# Altium schematic symbol library KlokWave.SchLib: 25 symbols
Pins are listed as number, name and electrical type; pins without a type are passive.

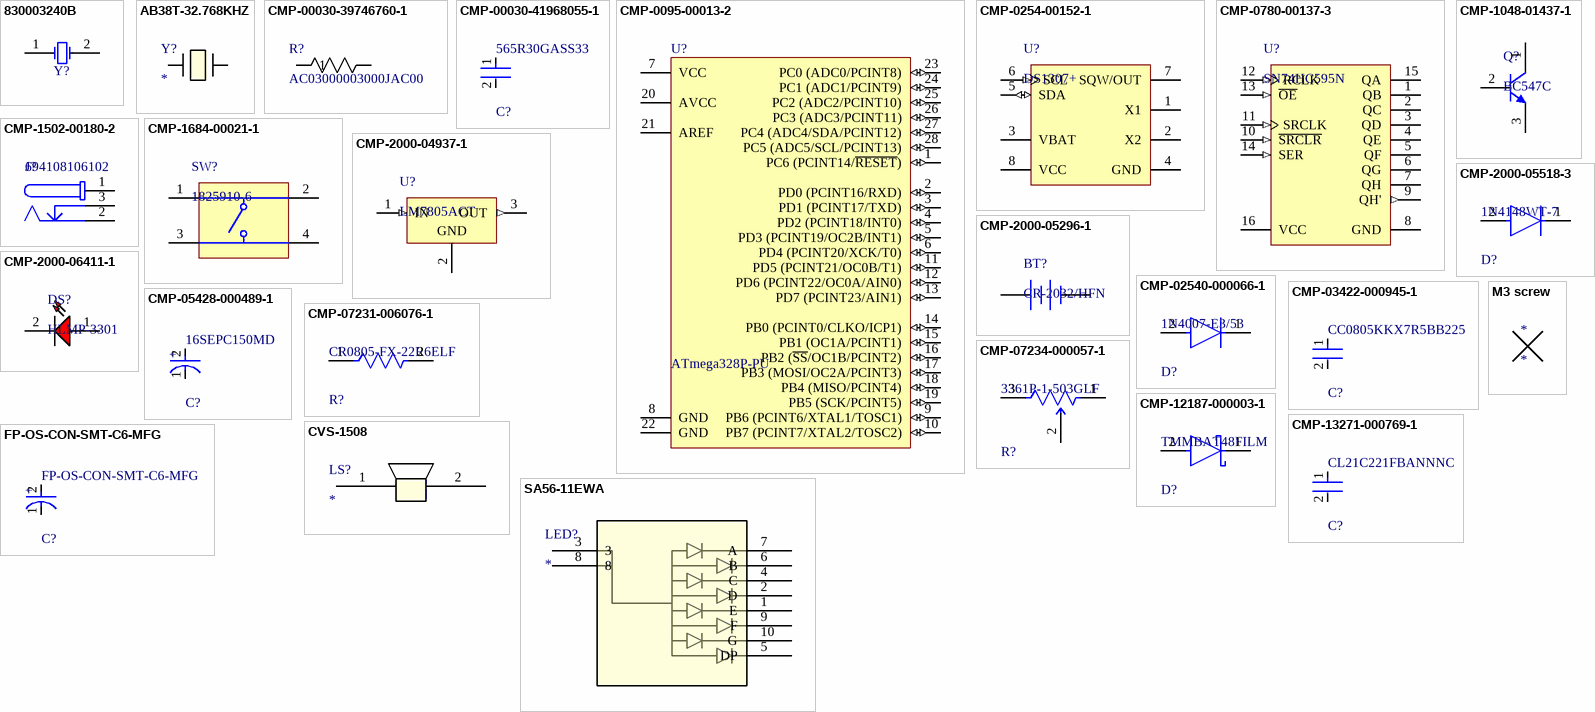
[diagram p0: symbols 830003240B to SA56-11EWA]

## 830003240B
designator Y?, comment 16MHz  (value not drawn)
THT Quartz Crystal, HC49/4H, 16MHz, +/-30ppm WE-XTAL; Manufacturer Part Number: 830003240B; Manufacturer: Wurth Elektronik; Frequency Stability: +/-50ppm; Load Capacitance: 30pF; ComponentLink1Description: Website Link; ComponentLink1URL: https://www.we-online.com/redexpert/article/830003240B?ad; ComponentLink2Description: Datasheet Link; ComponentLink2URL: https://www.we-online.com/redexpert/spec/830003240B?ad; Category: Crystals; Match Code: WE-XTAL; Mount: Through Hole; Operating Temperature Max: 70°C; Operating Temperature Min: -20°C; Packaging: Bulk; Case/Size Code: HC49/4H; Length: 11.05mm; Width: 4.7mm; Height: 4.1mm; Frequency: 16MHz; Frequency Tolerance: +/-30ppm
footprint THT 16 MHz: WE-XTAL_HC49/4H (Quartz Crystal, size HC49/4H, body 11.05x4.7mm)
pins: 1 OSC1, 2 OSC2

## AB38T-32.768KHZ
designator Y?
THT CRYSTAL 32.7680KHZ 12.5PF TH; Mfr_Name: Abracon
footprint THT 32 KHz OSC: XTAL_AB38T_ABR
pins: 1, 2

## CMP-00030-39746760-1
designator R?, comment AC03000003000JAC00
AC03000003000JAC00 Res Wirewound THT; NexarPartId: 39746760; Voltage Rating (DC): 30V; Lead Diameter: 800µm; Max Power Dissipation: 3W; Tolerance: 5%; Temperature Coefficient: -80ppm/°C; Resistance: 300Ω; Max Operating Temperature: 275°C; Number of Pins: 2; Termination: Axial; Diameter: 4.8mm; Contact Plating: Tin; Packaging: Cut Tape (CT); Schedule B: 8533210080, 8533210080|8533210080|8533210080|8533210080|8533210080; Voltage Rating: 30V; Military Standard: Not; Composition: Wirewound; Power Rating: 3W; Case/Package: Axial; REACH SVHC: Unknown; Min Operating Temperature: -40°C; Thickness: 4.8006mm; Features: Flame Retardant Coating; Width: 4.8mm; Length: 13mm; RoHS: Compliant; Number of Terminations: 2
footprint THT Resistor: RES_AC03_VIS
pins: 1, 2

## CMP-00030-41968055-1
designator C?, comment 565R30GASS33
565R30GASS33 33nF 3 kV dc THT Ceramic Single Layer Capacitor; Z5U Dielectric Radial 565R Series; NexarPartId: 41968055; Voltage: 3kV; Tolerance: 20%; Lead Diameter: 640µm; Diameter: 22.9mm; Lead Free: Lead Free; Material: Ceramic; Schedule B: 8532230060; Depth: 6.1mm; Mount: Radial; Max Operating Temperature: 105°C; Capacitance: 33nF; Composition: Ceramic; RoHS: Compliant; Min Operating Temperature: -25°C; Dielectric: Z5U; Height: 22.9mm; Voltage Rating: 3kV; Lead Pitch: 9.52mm; Termination: Radial; Packaging: Bulk; Case/Package: Radial; Voltage Rating (DC): 3kV
footprint THT NonPol CerCOndensator: FP-565R30GASS33-MFG
pins: 1, 2

## CMP-0095-00013-2
designator U?, comment ATmega328P-PU
8-bit AVR Microcontroller, 32KB Flash, 1KB EEPROM, 2KB SRAM, 28-pin PDIP, Industrial Grade (-40°C to 85°C); RevisionNote: DatasheetVersion updated. URLs added.; PackageVersion: revB, Sep-2001; PackageDescription: 28-lead (0.300"/7.62mm Wide) Plastic Dual Inline Package (PDIP); DatasheetVersion: revD, May-2011; ComponentLink1Description: Manufacturer URL; ComponentLink1URL: http://www.atmel.com/; PackageReference: 28P3; ComponentLink2Description: ATmega48A/48PA/88A/88PA/168A/168PA/328/328P Datasheet; ComponentLink3URL: http://www.atmel.com/dyn/resources/prod_documents/8271S.pdf; ComponentLink2URL: http://www.atmel.com/dyn/resources/prod_documents/8271.pdf; ComponentLink3Description: ATmega48A/48PA/88A/88PA/168A/168PA/328/328P Summary
footprint THT ATMEGA328P-PU: 28P3 (28-Pin Plastic Dual In-Line Package (PDIP))
pins: 1 PC6 (PCINT14/~{RESET}) (io), 2 PD0 (PCINT16/RXD) (io), 3 PD1 (PCINT17/TXD) (io), 4 PD2 (PCINT18/INT0) (io), 5 PD3 (PCINT19/OC2B/INT1) (io), 6 PD4 (PCINT20/XCK/T0) (io), 7 VCC (power), 8 GND (power), 9 PB6 (PCINT6/XTAL1/TOSC1) (io), 10 PB7 (PCINT7/XTAL2/TOSC2) (io), 11 PD5 (PCINT21/OC0B/T1) (io), 12 PD6 (PCINT22/OC0A/AIN0) (io), 13 PD7 (PCINT23/AIN1) (io), 14 PB0 (PCINT0/CLKO/ICP1) (io), 15 PB1 (OC1A/PCINT1) (io), 16 PB2 (~{SS}/OC1B/PCINT2) (io), 17 PB3 (MOSI/OC2A/PCINT3) (io), 18 PB4 (MISO/PCINT4) (io), 19 PB5 (SCK/PCINT5) (io), 20 AVCC (power), 21 AREF (power), 22 GND (power), 23 PC0 (ADC0/PCINT8) (io), 24 PC1 (ADC1/PCINT9) (io), 25 PC2 (ADC2/PCINT10) (io), 26 PC3 (ADC3/PCINT11) (io), 27 PC4 (ADC4/SDA/PCINT12) (io), 28 PC5 (ADC5/SCL/PCINT13) (io)

## CMP-0254-00152-1
designator U?, comment DS1307+
64 x 8, Serial, I2C Real-Time Clock, 5.0V, 8-Pin PDIP, 0 to 70 degC, Pb-Free; ComponentLink2URL: http://datasheets.maxim-ic.com/en/ds/DS1307.pdf; ComponentLink3URL: http://pdfserv.maxim-ic.com/package_dwgs/21-0043.PDF; ComponentLink1Description: Manufacturer URL; PackageVersion: revE, 2011; ComponentLink1URL: http://www.maxim-ic.com; PackageDescription: 8-Pin Plastic Dual-In-Line, Narrow (0.3in), Pitch 2.54 mm, PDIP(N), Pb-Free; ComponentLink2Description: Datasheet; Code_JEDEC: MS-001-AB; PackageReference: P8+2; DatasheetVersion: 10-Feb-2008; ComponentLink3Description: Package Specification
footprint THT Chip DS1307: P8+2 (DIP, 8-Leads, Row Spacing 7.62mm, Pitch 2.54mm, Body 9.4x7mm)
pins: 1 X1, 2 X2, 3 VBAT (power), 4 GND (power), 5 SDA (io), 6 SCL (in), 7 SQW/OUT (oc), 8 VCC (power)

## CMP-0780-00137-3
designator U?, comment SN74HC595N
8-Bit Shift Registers With 3-State Output Registers, N0016A, TUBE; Manufacturer: Texas Instruments; F @ Nom Voltage(Max)(Mhz): 28; Input Type: CMOS; Bits: 8; VCC(Min)(V): 2; 3-State Output: Yes; ICC @ Nom Voltage(Max)(mA): 0.08; VCC(Max)(V): 6; tpd @ Nom Voltage(Max)(ns): 34; Rating: Military; Technology Family: HC; Output Drive (IOL/IOH)(Max)(mA): 7.8/-7.8; Code_JEDEC: MS-001; Output Type: CMOS; Operating Temperature Range(C): -40 to 85; Voltage(Nom)(V): 6; Generic Part Number: SN74HC595; DatasheetVersion: SCLS041H; PackageReference: N0016A; PackageVersion: http://www.ti.com/lit/ml/mpdi002c/mpdi002c.pdf
footprint THT 74HC595N: N0016A (DIP, 16-Leads, Body 19.7x6.6mm, Pitch 2.54mm)
pins: 1 QB (hiz) "QB Output", 2 QC (hiz) "QC Output", 3 QD (hiz) "QD Output", 4 QE (hiz) "QE Output", 5 QF (hiz) "QF Output", 6 QG (hiz) "QG Output", 7 QH (hiz) "QH Output", 8 GND (power) "Ground Pin", 9 QH' (out) "QH' Output", 10 ~{SRCLR} (in) "S\R\C\L\R\ Input", 11 SRCLK (in) "SRCLK Input", 12 RCLK (in) "RCLK Input", 13 ~{OE} (in) "Output Enable Pin", 14 SER (in) "SER Input", 15 QA (hiz) "QA Output", 16 VCC (power) "Power Pin"

## CMP-1048-01437-1
designator Q?, comment BC547C
BC547C: THT Amplifier Transistor, NPN Silicon, 3-Pin TO-92, Bulk Box; Manufacturer: On Semiconductor; IC Continuous (A): 0.1; fT Min (MHz): 150; ComponentLink1URL: http://www.onsemi.com/; ComponentLink1Description: Manufacturer URL; ComponentLink3URL: http://www.onsemi.cn/pub_link/Collateral/2N6426-D.PDF; DatasheetVersion: Rev. 7; PackageVersion: Rev. AM; Packing: Bulk Box; RoHS: FALSE; Polarity: NPN; PartNumber: BC547C; ComponentLink2URL: http://www.onsemi.com/pub_link/Collateral/BC546-D.PDF; ComponentLink3Description: Package Specification; PackageDescription: 3-Pin Transistor Outline, Body 4.825 x 3.685 mm, Pitch 1.27 mm; PackageReference: TO-92-3-29-11_AM_SL; ComponentLink2Description: Datasheet; Mounting Technology: Through Hole
footprint THT NPN Transistor: ONSC-TO-92-3-29-11_AM_BL (TO, 3-Leads, Body Dia 4.7mm, Pitch 2.6mm)
pins: 1 C, 2 B, 3 E

## CMP-1502-00180-2
designator J?, comment 694108106102
DC Power JAck; NexarPartId: 52645186; Shielding: Unshielded; Voltage Rating: 24V; Insulation Resistance: 100MΩ; Current Rating: 5A; Gender: Male; RoHS: Compliant; Housing Material: Polyamide; Connector Type: Power; Flammability Rating: UL94 V-0; Contact Gender: Female; Mount: Surface Mount; Termination: SMD/SMT; Contact Plating: Tin; Max Operating Temperature: 85°C; Operating Supply Voltage: 24V; Voltage Rating (DC): 24V; REACH SVHC: Unknown; Packaging: Tape and Reel; Min Operating Temperature: -40°C; Color: Black
footprint THT DC Power Jack: 694106301002 (DC Power Jack Right Angled(6.4))
pins: 1, 2, 3

## CMP-1684-00021-1
designator SW?, comment 1825910-6
THT Tact Switch, SPST-NO, 0.05 A, -35 to 85 degC, 4-Pin THD, RoHS, Bulk; Manufacturer: TE Connectivity; Maximum Contact Resistance: 100mOhm; Mechanical Life: 100000Cycles; Bushing Type: Unthreaded; Switch Configuration: OFF(ON); Maximum DC Voltage Rating: 24V; Contact Rating @ Voltage: 0.05A@24VDC; Actuator Color: Black; Body Orientation: Straight; Function: MomentaryContact; Illumination: N/R; Actuator Style: RoundButton; Actuator Material: PolybutyleneTerephthalate; Dielectric Strength: 500VAC; Pole Throw Configuration: SPST; Actuator Length: 1.4mm; Product Weight: N/A; Contact Material: CopperAlloy; Housing Material: N/A; Terminal Type: PCPins; Minimum Insulation Resistance: 100MOhm; Package Description: 4-Pin Through Hole Device, Body 5.99 x 5.99 mm, Pitch 6.5 mm; Part No: 1825910-6; Package Reference: THD; Base Material: N/A; Manufacturer URL: http://www.te.com; Contact Plating: Silver; RoHS: Yes; Datasheet Version: Rev. C9; Electrical Life: 100000Cycles; Maximum AC Voltage Rating: N/A; Thread Size: N/R; Operating Temperature: -35to85C; Mounting: ThroughHole; Dimension: 5.99x5mm; Datasheet URL: http://www.te.com/commerce/DocumentDelivery/DDEController?Action=showdoc&DocId=Customer+Drawing%7F1825910%7FC9%7Fpdf%7FEnglish%7FENG_CD_1825910_C9.pdf%7F1825910-6; Family: 1825910; Seal Location: N/A; Seal Description: N/A; Packaging: N/A
footprint THT Button: TECO-1825910-6_V (Switch, 4-Leads, Body 5.99x5.99mm)
pins: 1, 2, 3, 4

## CMP-2000-04937-1
designator U?, comment LM7805ACT
Positive Voltage Regulator, 5 V, 1 A, 0 to 125 degC, 3-Pin TO-220, RoHS, Tube; Manufacturer: Fairchild; Number of Outputs: 1; Typical Dropout Voltage @ Current: 2V@1A; Output Type: Fixed; Output Voltage: 5V; Quiescent Current: 6mA; Dropout Voltage Measurement Current: 1A; Line Regulation: 50mV; Maximum Input Voltage: 35V; Regulator Function: Linear; Load Regulation: 100mV; Package Type: TO-220; Mounting Type: ThroughHole; Height: 16.51mm; Maximum Operating Temperature: +125degC; Datasheet Version: Rev. 1.0.1, 05/2006; Package Reference: TO-220; Minimum Operating Temperature: 0degC; Manufacturer URL: https://www.fairchildsemi.com/; Package URL: https://www.fairchildsemi.com/package-drawings/TO/TO220B03.pdf; Length: 10.67mm; Series: LM78xx; Dimensions: 10.67x4.83x16.51mm; Polarity: Positive; Maximum Output Current: 1A; Pin Count: 3; Width: 4.83mm; Package Description: 3-Pin Through Hole Device, Body 10 x 4.5 mm, Pitch 2.54 mm; Datasheet URL: https://datasheet.ciiva.com/5816/1359194-5816420.pdf
footprint THT LM7805: FAIR-TO-220-3 (FM, 3-Leads, Body 10.2x4.7mm, Pitch 2.54mm)
pins: 1 IN (in), 2 GND (power), 3 OUT (out)

## CMP-2000-05296-1
designator BT?, comment CR-2032/HFN
Coin Cell Battery, 225 mAh, 0.2 mA, 3 V, -30 to 60 degC, Bulk; Manufacturer: Panasonic; SVHC: 1,2-dimethoxyethane,ethyleneglycoldimethylether(EGDME)(15-Jun-2015); Battery Size Code: 2032; Battery Voltage: 3V; Battery IEC Code: CR2032; Battery NEDA Code: 5004LC; External Height: 3.2mm; Battery Terminals: PCBPins; Battery Capacity: 220mAh; External Diameter: 20mm; Battery Technology: LithiumManganeseDioxide; Product Range: -; Datasheet Version: Rev. 0, 05/2010; Manufacturer URL: http://www.panasonic.com/; External Depth: -; Weight: 2.9g; Datasheet URL: https://datasheet.ciiva.com/3/aaa4000de87-3072.pdf; External Width: -
footprint THT 3VBAT: PANA-CR-2032HFN (TH, 2-Leads, Dia 21.5mm)
pins: 1 +, 2 -

## CMP-2000-05518-3
designator D?, comment 1N4148WT-7
Rectifier Diode 1N4148 GEN PURP 80V 125MA SOD523; Power Rating: 150mW; Peak Non-Repetitive Surge Current: 2A; Forward Voltage: 1.25V; Reverse Recovery Time: 4ns; Peak Reverse Current: 1uA; Max Repetitive Reverse Voltage (Vrrm): 100V; Capacitance: 2pF; Polarity: Standard; Element Configuration: Single; Forward Current: 250mA; Lead Free: Lead Free; Packaging: Tape and Reel; Length: 0.9mm; Min Operating Temperature: -65°C; Current Rating: 125mA; Max Reverse Voltage (DC): 80V; Width: 1.3mm; Package Quantity: 3000; Output Current: 125mA; Power Dissipation: 150mW; Max Operating Temperature: 150°C; Radiation Hardening: No; Average Rectified Current: 125mA; Height: 0.65mm; Voltage Rating (DC): 80V; Max Surge Current: 2A; Weight: 3.5E-05oz; Recovery Time: 4ns; Max Forward Surge Current (Ifsm): 2A; Contact Plating: Tin; Number of Pins: 2; Mount: Surface Mount; REACH SVHC: No SVHC
footprint SMD Diode Rect: FP-SOD523-MFG (~ 2mm)
pins: 1 C, 2 A

## CMP-2000-06411-1
designator DS?, comment HLMP-3301
T-1 3/4 (5 mm) Diffused LED Lamp, 1.9 V, -40 to 100 degC, 2-Pin THD; Manufacturer: Avago; Forward Current: 25mA; Forward Voltage: 2.4V; Peak Wavelength: 635nm; Shape Type: Circular; High Brightness: No; Main Category: StandardLED; Test Current (It): 10mA; Dominant Wave Length: 626nm; Number of  Elements: 1; Reverse Voltage: 5V; Chip Material: GaP; Product Height (mm): 9.19mm; Lens Type: ColoredDiffused; Viewing Angle: 60deg; Type: Uni-Color; Emitting Color: Red; Luminous Intensity: 5.4mcd; Power Dissipation: 85W; DELETED: Compliant; Product Depth (mm): 6.1mm; Package Description: 2-Pin Through Hole LED, Dia 5.85 mm; Mounting Technology: ThroughHole; Manufacturer URL: http://www.avagotech.com/; Package Type: T-13/4; Operating Temp Range: -40Cto100C; Datasheet URL: http://www.avagotech.com/docs/AV02-1558EN; Mounting: ThroughHole; Lens Dimensions: 5.08x5.08x8.3mm; Package Reference: HLMP-3301; Datasheet Version: 03/2015; Pin Count: 2; Packaging: TapeandReel; Operating Temperature Classification: Industrial; Lum Intensity: 5.4mcd; Rad Hardened: No; Product Length (mm): 6.1mm
footprint THT LED: AVAG-HLMP-3301-2 (THD, 2-Leads, Body Dia 5.85mm)
pins: 1 K, 2 A

## CMP-02540-000066-1
designator D?, comment 1N4007-E3/53
1N4007 DIODE GEN PURP 1KV 1A DO204AL; Max Surge Current: 45A; Max Reverse Current: 5uA; Element Configuration: Single; Max Repetitive Reverse Voltage (Vrrm): 1kV; Max Reverse Voltage (DC): 1kV; Packaging: Tape and Reel; Peak Non-Repetitive Surge Current: 45A; Reverse Voltage: 1kV; Number of Pins: 2; Contact Plating: Tin; Mount: Through Hole; Package Quantity: 3000; Case/Package: DO-41; Radiation Hardening: No; Max Operating Temperature: 150°C; Series: -; Min Operating Temperature: -50°C; Average Rectified Current: 1A
footprint THT Diode FP-1N4007-E3-53-MFG
pins: 1 C, 2 A

## CMP-03422-000945-1
designator C?, comment CC0805KKX7R5BB225
CAP CER 2.2UF 6.3V X7R 0805; Manufacturer: Yageo; Tolerance: 0.1; Material: Ceramic; ComponentLink2URL: http://www.yageo.com/documents/recent/UPY-GPHC_Y5V_6.3V-to-50V_8.pdf; Package: CC0805-0.85; Temperature Range Low: -30°C; Temperature: -30°C to +85°C; Footprint Url: http://www.yageo.com/exep/pages/download/literatures/UPY-C_GEN_24.pdf; Category: Cap; Lead Free: Yes; Temperature Range High: +85°C; Octopart: https://octopart.com/cc0805kkx7r5bb225-yageo-29810442; Ipc Land Pattern Name: CAPC200125X85; RoHS: TRUE; Manufacturer Part Number: CC0805KKX7R5BB225; Capacitance: 2.2 uF; Height: 0.95mm; Value: 2.2 uF; Device Class L1: Passive Components; Automotive: No; Temperature Characteristic: X7R; Device Class L3: Ceramic Capacitors; Voltage Rating: 6.3 V; ComponentLink2Description: Datasheet; Device Class L2: Capacitors; Mouser Description: Multilayer Ceramic Capacitors MLCC - SMD/SMT 2.2uF 6.3V X7R 10%; Digikey Description: CAP CER 2.2UF 6.3V X7R 0805
footprint SMD RES: 0805ph (Chip Resistor, 2-Leads, Body 2.00x1.25mm, IPC Medium Density)
pins: 1, 2

## CMP-05428-000489-1
designator C?, comment 16SEPC150MD
Conductive Polymer Aluminum Solid Capacitors (OS-CON) 150uF ±20% 16V RADIAL TH 8x7mm; Ripple Current: 3.22A; ESR (Equivalent Series Resistance): 22mR; Polarity: Polar; Leakage Current: 500uA; Dissipation Factor: 12%; Life (Hours): 5000Hour; Lead Diameter: 0.45mm; Voltage Rating: 16V; Case/Package: Radial; Mount: Through Hole; Series: OS-CON™, SEPC; Lead Pitch: 3.5mm; Height - Seated (Max): 0.276inch; Diameter: 8mm; Max Operating Temperature: 105°C; Length: 7mm; Voltage Rating (DC): 16V; Lead Free: Lead Free; RoHS Compliant: Yes; Package Quantity: 200; Voltage: 16V; Packaging: Bulk; Tolerance: 20%; REACH SVHC: No SVHC; Termination: Radial; Capacitance: 150uF; Number of Pins: 7; Min Operating Temperature: -55°C; Height: 7mm
footprint THT PolCondensator FP-OS-CON-TH-E7-d_0_45-MFG
pins: 1 C, 2 A
text: +

## CMP-07231-006076-1
designator R?, comment CR0805-FX-22R6ELF
Thick Film Chip Resistors 0805 22.6Ω 0.125W 1% 100ppm/°C; Max Power Dissipation: 125mW; Voltage Rating: 150V; Resistance: 22.6R; Package Quantity: 5000; Height: 0.024inch; Series: CR0805; Width: 0.049inch; Min Operating Temperature: -55°C; Max Operating Temperature: 155°C; Length: 2mm; Depth: 1.25mm; Military Standard: Not; Features: Moisture Resistant; Mount: Surface Mount; Tolerance: 1%; Termination: SMD/SMT; Contact Plating: Tin; Thickness: 508um; Resistor Type: Thick Film; Construction: Rectangular; Power Rating: 125mW; Case Code (Imperial): 0805; Case Code (Metric): 2012; Packaging: Tape and Reel; Temperature Coefficient: 100ppm/°C; Case/Package: 0805; Radiation Hardening: No; Number of Terminations: 2
footprint SMD RES: 0805ph (Chip Resistor, 2-Leads, Body 2.00x1.25mm, IPC Medium Density)
pins: 1, 2

## CMP-07234-000057-1
designator R?, comment 3361P-1-503GLF
SMD TRIMMER 50K OHM 0.5W GW TOP ADJ; Power Rating: 500mW; Voltage Rating: 300V; Resistance Tolerance: 10%; Number of Turns: 1; Resistance: 50kR; Temperature Coefficient: 100ppm/°C; Height: 0.205inch; Radiation Hardening: No; RoHS Compliant: Yes; Length: 6.71mm; Depth: 8.53mm; Max Operating Temperature: 125°C; Military Standard: Not; Weight: 0.567g; Technology: CERMET; Voltage Rating (DC): 300V; Width: 0.264inch; Packaging: Tape and Reel; Lead Free: Lead Free; Tolerance: 10%; Reach SVHC Compliant: Yes; Taper: Linear; Min Operating Temperature: -55°C; Color: Natural; Package Quantity: 1; Resistor Type: Cermet; Contact Plating: Tin; Series: 3361; Mount: Surface Mount; Termination: Gull Wing; Max Power Dissipation: 500mW
footprint SMD POT: FP-3361P-MFG
pins: 1 CCW, 2 WIPER, 3 CW

## CMP-12187-000003-1
designator D?, comment TMMBAT48FILM
Rectifier Diode BAT48 SCHOTTKY 40V 350MA MINMELF; Manufacturer: STMicroelectronics; Max Surge Forward Current: 1.5A; Value: 20pF; Max Junction Temp: +125°C; Peak Reverse Current: 25uA; ComponentLink2Description: Datasheet; Manufacturer Part Number: TMMBAT48FILM; Height: 1.62mm; Forward Current: 350mA; Temperature: -65°C to +125°C; Max Repetitive Reverse Voltage: 40V; Category: Diode; Temperature Range Low: -65°C; Reverse Voltage: 40V; Device Class L3: Schottky Diodes; RoHS: TRUE; Digikey Description: DIODE SCHOTTKY 40V 350MA MINMELF; ComponentLink2URL: https://www.st.com/resource/en/datasheet/tmmbat48.pdf; Temperature Range High: +125°C; Octopart: https://octopart.com/tmmbat48film-stmicroelectronics-324396; Lead Free: Yes; Capacitance: 20pF; Device Class L1: Discrete Semiconductors; Device Class L2: Diodes; Automotive: No; Package: MINIMELF; Mouser Description: Schottky Diodes & Rectifiers 350mA 40 Volt
footprint SMD Diode BAT48 FP-MINIMELF-MFG
pins: 1 C, 2 A

## CMP-13271-000769-1
designator C?, comment CL21C221FBANNNC
SMD cap nonpol: CL21 Series 0805 220pF 50V ±1% Tolerance C0G Multilayer Ceramic Chip Capacitor; Min Operating Temperature: -55°C; Radiation Hardening: No; Case/Package: 0805; Max Operating Temperature: 125°C; Height: 0.65mm; Depth: 1.25mm; Packaging: Tape and Reel; Thickness: 0.03inch; Voltage Rating: 50V; Case Code (Imperial): 0805; Lead Free: Lead Free; Width: 0.049inch; Tolerance: 1%; Mount: Surface Mount; Dielectric: C0G; Case Code (Metric): 2012; Capacitance: 220pF; Material: Ceramic; Voltage Rating (DC): 50V; Package Quantity: 1; Length: 0.079inch
footprint SMD RES: 0805ph (Chip Resistor, 2-Leads, Body 2.00x1.25mm, IPC Medium Density)
pins: 1, 2

## CVS-1508
designator LS?
THT Speaker; Mfr_Name: Same Sky; RefDes: RefDes; Type: Type
footprint THT speaker: CVS-1508_CUD
pins: 1, 2

## FP-OS-CON-SMT-C6-MFG
designator C?
SMD Elco Capacitor; Leakage Current: 500nA; Capacitance: 680nF; Tolerance: 10%; Dissipation Factor: 4%; ESR (Equivalent Series Resistance): 25R; Voltage Rating: 16V; Dielectric Material: Tantalum; Mount: Surface Mount; Termination: SMD/SMT; Construction: Flat; Height: 1.2mm; Series: TAJ; Width: 1.3mm; Case Code (Imperial): 0805; Length: 2.05mm; Package Quantity: 2500; Min Operating Temperature: -55°C; Radiation Hardening: No; Lead Free: Lead Free; Case/Package: 0805; Height - Seated (Max): 0.047inch; Weight: 0.000194oz; Voltage Rating (DC): 16V; Features: General Purpose; Depth: 1.3mm; RoHS Compliant: Yes; Case Code (Metric): 2012; Packaging: Tape and Reel; Max Operating Temperature: 125°C; REACH SVHC: No SVHC
footprint SMD Elco pol: FP-OS-CON-SMT-C6-MFG
pins: 1 C, 2 A
text: +

## M3 screw
designator *
footprint M3 Hole

## SA56-11EWA
designator LED?
THT CA 7SegDisplay; Mfr_Name: Kingbright; RefDes: RefDes; Type: Type
footprint THT 7Seg: LED10_SA56-11EWA_KNB
pins: 1 E, 2 D, 3, 4 C, 5 DP, 6 B, 7 A, 8, 9 F, 10 G